# EAGLE library part OPA2192QDGKRQ1 (library shepherd)
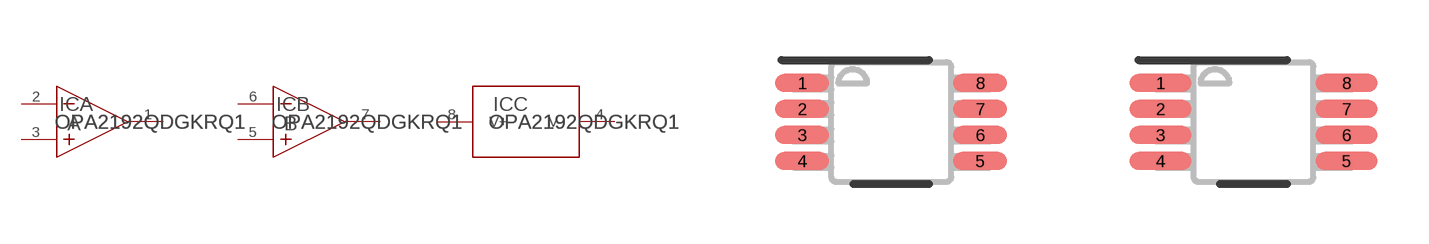
[diagram p14: symbol with the pads of DGK0008A_N; footprints DGK0008A_N, DGK0008A_M]

Designator prefix IC; gates A=OPA2192-Q1DGK_A B=OPA2192-Q1DGK_B C=OPA2192-Q1DGK_C

## OPA2192QDGKRQ1  [DGK0008A_N]
1  A:OUT  out
2  A:IN-  in
3  A:IN+  in
4  C:V-  pwr
5  B:IN+  in
6  B:IN-  in
7  B:OUT  out
8  C:V+  pwr

## OPA2192QDGKRQ1DGK0008A_M  [DGK0008A_M]
Pads as for DGK0008A_N

## OPA2192QDGKRQ1DGK0008A_L  [DGK0008A_L]
Pads as for DGK0008A_N

## Footprint DGK0008A_N (pad centres in mm)
smd 1.35 x 0.45: 1 -2.225,0.975; 2 -2.225,0.325; 3 -2.225,-0.325; 4 -2.225,-0.975; 5 2.225,-0.975; 6 2.225,-0.325; 7 2.225,0.325; 8 2.225,0.975

## Footprint DGK0008A_M (pad centres in mm)
smd 1.55 x 0.45: 1 -2.325,0.975; 2 -2.325,0.325; 3 -2.325,-0.325; 4 -2.325,-0.975; 5 2.325,-0.975; 6 2.325,-0.325; 7 2.325,0.325; 8 2.325,0.975

## Footprint DGK0008A_L (pad centres in mm)
smd 1.15 x 0.45: 1 -2.125,0.975; 2 -2.125,0.325; 3 -2.125,-0.325; 4 -2.125,-0.975; 5 2.125,-0.975; 6 2.125,-0.325; 7 2.125,0.325; 8 2.125,0.975